# Altium footprint library MicroFit-footprints.PcbLib: 7 footprints
Each footprint in its own frame and in the unit in brackets; x right, y up, seen from the top. Pads: shape width x height; smd on the part's side, far side on the other; paste and mask are expansions set on the pad; w line width, h text height; cw(c..) or ccw(c..) is an arc to the next point about the centre after c.
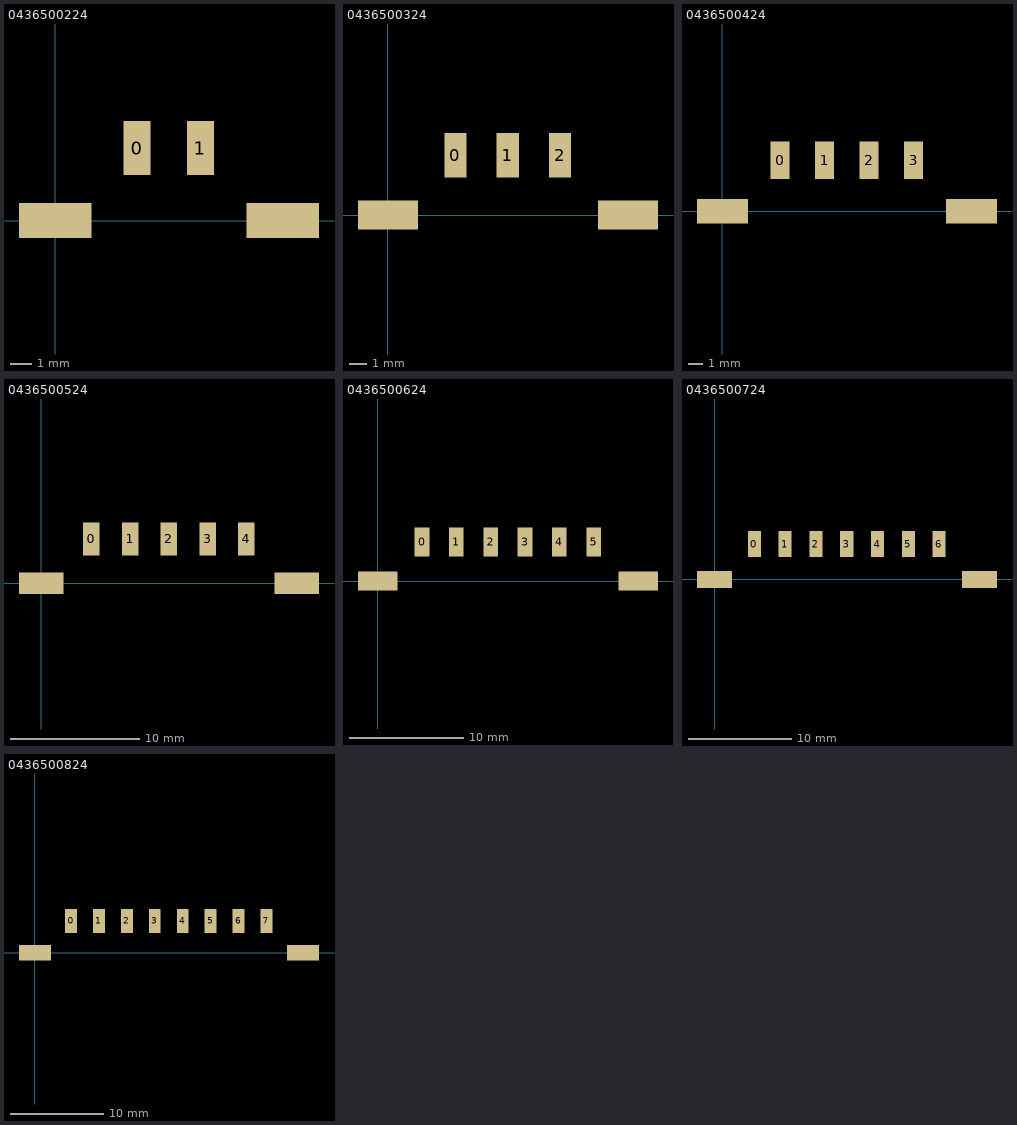
[diagram p0: the footprints below, top view; thin cyan lines are the x and y axes]

## 0436500224 [mil] "MicroFit 2 POS SMD VERTICAL SINGLE ROW"
pads (4):
  rect 50x100 smd: 0(152.5,135) 1(270.5,135)
  rect 135x65 smd: ""(0,0) ""(424,0)

## 0436500324 [mil] "MicroFit 3 POS SMD VERTICAL SINGLE ROW"
pads (5):
  rect 50x100 smd: 0(152.5,135) 1(270.5,135) 2(388.5,135)
  rect 135x65 smd: ""(0,0) ""(542,0)

## 0436500424 [mil] "MicroFit 4 POS SMD VERTICAL SINGLE ROW"
pads (6):
  rect 50x100 smd: 0(152.5,135) 1(270.5,135) 2(388.5,135) 3(506.5,135)
  rect 135x65 smd: ""(0,0) ""(660,0)

## 0436500524 [mil] "MicroFit 5 POS SMD VERTICAL SINGLE ROW"
pads (7):
  rect 50x100 smd: 0(152.5,135) 1(270.5,135) 2(388.5,135) 3(506.5,135) 4(624.5,135)
  rect 135x65 smd: ""(0,0) ""(778,0)

## 0436500624 [mil] "MicroFit 6 POS SMD VERTICAL SINGLE ROW"
pads (8):
  rect 50x100 smd: 0(152.5,135) 1(270.5,135) 2(388.5,135) 3(506.5,135) 4(624.5,135) 5(742.5,135)
  rect 135x65 smd: ""(0,0) ""(896,0)

## 0436500724 [mil] "MicroFit 7 POS SMD VERTICAL SINGLE ROW"
pads (9):
  rect 50x100 smd: 0(152.5,135) 1(270.5,135) 2(388.5,135) 3(506.5,135) 4(624.5,135) 5(742.5,135) 6(860.5,135)
  rect 135x65 smd: ""(0,0) ""(1015,0)

## 0436500824 [mil] "MicroFit 8 POS SMD VERTICAL SINGLE ROW"
pads (10):
  rect 50x100 smd: 0(152.5,135) 1(270.5,135) 2(388.5,135) 3(506.5,135) 4(624.5,135) 5(742.5,135) 6(860.5,135) 7(978.5,135)
  rect 135x65 smd: ""(0,0) ""(1133,0)